# Altium footprint library new-version.PcbLib: 241 footprints (part 2 of 16)
Each footprint in its own frame and in the unit in brackets; x right, y up, seen from the top. Pads: shape width x height; smd on the part's side, far side on the other; paste and mask are expansions set on the pad; w line width, h text height; cw(c..) or ccw(c..) is an arc to the next point about the centre after c.
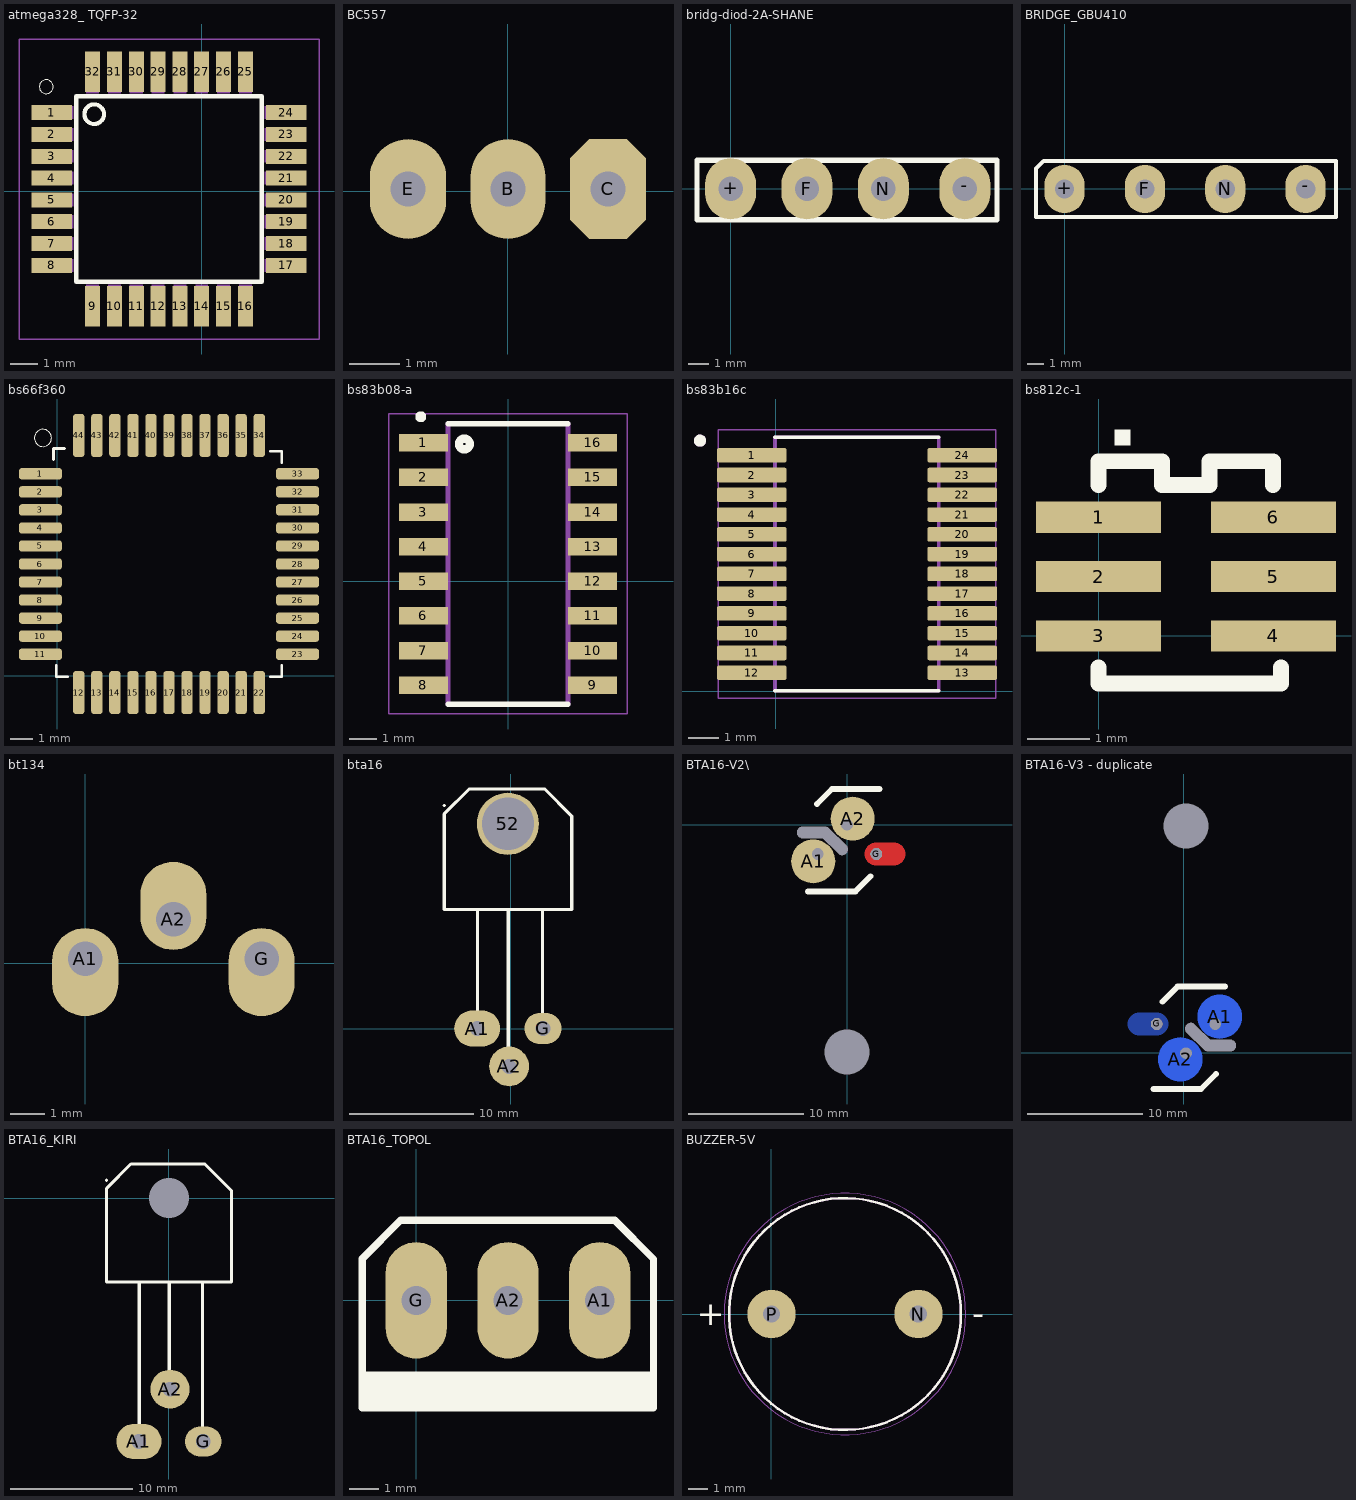
[diagram p1: the footprints below, top view; thin cyan lines are the x and y axes]

## atmega328_ TQFP-32 [mm]
pads (32):
  rect 1.5x0.55 smd: 1(-5.5,2.887) 2(-5.5,2.087) 3(-5.5,1.287) 4(-5.5,0.487) 5(-5.5,-0.313) 6(-5.5,-1.113) 7(-5.5,-1.913) 8(-5.5,-2.713) 17(3.1,-2.713) 18(3.1,-1.913) 19(3.1,-1.113) 20(3.1,-0.313) 21(3.1,0.487) 22(3.1,1.287) 23(3.1,2.087) 24(3.1,2.887)
  rect 0.55x1.5 smd: 9(-4,-4.213) 10(-3.2,-4.213) 11(-2.4,-4.213) 12(-1.6,-4.213) 13(-0.8,-4.213) 14(0,-4.213) 15(0.8,-4.213) 16(1.6,-4.213) 25(1.6,4.387) 26(0.8,4.387) 27(0,4.387) 28(-0.8,4.387) 29(-1.6,4.387) 30(-2.4,4.387) 31(-3.2,4.387) 32(-4,4.387)
Top Overlay:
  circle w0.152: c-3.943,2.83 r0.359
  circle w0: c-5.7,3.837 r0.254
  lines w0.152: -4.6,-3.313 2.2,-3.313 2.2,3.487 -4.6,3.487 -4.6,-3.313
Mechanical 13:
  region: -4.706,2.664 -5.707,2.664 -5.707,3.115 -4.706,3.115
  region: -4.706,1.861 -5.704,1.861 -5.704,2.315 -4.706,2.315
  region: -4.706,1.061 -5.711,1.061 -5.711,1.515 -4.706,1.515
  region: -4.706,0.258 -5.699,0.258 -5.699,0.715 -4.706,0.715
  region: -4.706,-0.543 -5.702,-0.543 -5.702,-0.085 -4.706,-0.085
  region: -4.706,-1.345 -5.706,-1.345 -5.706,-0.885 -4.706,-0.885
  region: -4.706,-2.145 -5.702,-2.145 -5.702,-1.685 -4.706,-1.685
  region: -4.706,-2.949 -5.707,-2.949 -5.707,-2.485 -4.706,-2.485
  region: -3.771,-4.419 -4.234,-4.419 -4.234,-3.419 -3.771,-3.419
  region: -2.971,-4.413 -3.43,-4.413 -3.43,-3.419 -2.971,-3.419
  region: -2.171,-4.42 -2.631,-4.42 -2.631,-3.419 -2.171,-3.419
  region: -1.371,-4.423 -1.83,-4.423 -1.83,-3.419 -1.371,-3.419
  region: -0.571,-4.418 -1.028,-4.418 -1.028,-3.419 -0.571,-3.419
  region: 0.229,-4.419 -0.226,-4.419 -0.226,-3.419 0.229,-3.419
  region: 1.029,-4.419 0.575,-4.419 0.575,-3.419 1.029,-3.419
  region: 1.829,-4.418 1.376,-4.418 1.376,-3.419 1.829,-3.419
  region: 3.297,-2.945 2.31,-2.945 2.31,-2.485 3.297,-2.485
  region: 3.297,-2.146 2.312,-2.146 2.312,-1.685 3.297,-1.685
  region: 3.297,-1.345 2.314,-1.345 2.314,-0.885 3.297,-0.885
  region: 3.297,-0.543 2.311,-0.543 2.311,-0.085 3.297,-0.085
  region: 3.297,0.258 2.31,0.258 2.31,0.715 3.297,0.715
  region: 3.297,1.06 2.314,1.06 2.314,1.515 3.297,1.515
  region: 3.297,1.865 2.319,1.865 2.319,2.315 3.297,2.315
  region: 3.297,2.664 2.315,2.664 2.315,3.115 3.297,3.115
  region: 1.829,3.601 1.378,3.601 1.378,4.583 1.829,4.583
  region: 1.029,3.6 0.576,3.6 0.576,4.583 1.029,4.583
  region: 0.229,3.599 -0.226,3.599 -0.226,4.583 0.229,4.583
  region: -0.571,3.6 -1.028,3.6 -1.028,4.583 -0.571,4.583
  region: -1.371,3.604 -1.83,3.604 -1.83,4.583 -1.371,4.583
  region: -2.171,3.6 -2.631,3.6 -2.631,4.583 -2.171,4.583
  region: -2.971,3.598 -3.432,3.598 -3.432,4.583 -2.971,4.583
  region: -3.771,3.598 -4.233,3.598 -4.233,4.583 -3.771,4.583
Mechanical 15:
  lines w0.05: -6.7,-5.413 4.3,-5.413 4.3,5.587 -6.7,5.587 -6.7,-5.413

## BC557 [mm]
pads (3):
  oval 1.5x2 hole 0.7: B(0.002,0.044)
  oct 1.524x2 hole 0.7: C(2.002,0.044)
  oval 1.524x2 hole 0.7: E(-1.998,0.044)
Bottom Overlay:
  lines w0.254: -2.03,0.044 cw(c0.002,0.044) 2.034,0.044 ; -1.998,0.044 -1.998,-0.972 2.002,-0.972 2.002,0.044

## bridg-diod-2A-SHANE [mm]
pads (4):
  oval 2.5x3 hole 1.2: +(0,0) -(11.5,0) F(3.75,0) N(7.5,0)
Top Overlay:
  lines w0.254: -1.651,-1.524 13.081,-1.524 13.081,1.397 -1.651,1.397 -1.651,-1.524

## BRIDGE_GBU410 [mm]
pads (4):
  oval 2.5x3 hole 1.2: +(0,0) -(15,0) F(5,0) N(10,0)
Top Overlay:
  lines w0.254: -1.778,-1.75 -1.778,1.27 -1.298,1.75 16.891,1.75 16.891,-1.75 -1.778,-1.75

## bs66f360 [mm]
pads (44):
  rrect50% 1.9x0.5 smd: 1(-0.747,8.953) 2(-0.747,8.153) 3(-0.747,7.353) 4(-0.747,6.553) 5(-0.747,5.753) 6(-0.747,4.953) 7(-0.747,4.153) 8(-0.747,3.353) 9(-0.747,2.553) 10(-0.747,1.753) 11(-0.747,0.953) 23(10.653,0.953) 24(10.653,1.753) 25(10.653,2.553) 26(10.653,3.353) 27(10.653,4.153) 28(10.653,4.953) 29(10.653,5.753) 30(10.653,6.553) 31(10.653,7.353) 32(10.653,8.153) 33(10.653,8.953)
  rrect50% 0.5x1.9 smd: 12(0.953,-0.747) 13(1.753,-0.747) 14(2.553,-0.747) 15(3.353,-0.747) 16(4.153,-0.747) 17(4.953,-0.747) 18(5.753,-0.747) 19(6.553,-0.747) 20(7.353,-0.747) 21(8.153,-0.747) 22(8.953,-0.747) 34(8.953,10.653) 35(8.153,10.653) 36(7.353,10.653) 37(6.553,10.653) 38(5.753,10.653) 39(4.953,10.653) 40(4.153,10.653) 41(3.353,10.653) 42(2.553,10.653) 43(1.753,10.653) 44(0.953,10.653)
Top Overlay:
  circle w0: c-0.635,10.541 r0.381
  lines w0.127: -0.174,9.58 -0.174,10.08 0.326,10.08 ; -0.047,0.453 -0.047,-0.047 0.453,-0.047 ; 9.453,-0.047 9.953,-0.047 9.953,0.453 ; 9.453,9.953 9.953,9.953 9.953,9.453
3D body "LQFP-44.STEP": height 1.6, standoff 0, extent -1.05,-1.04 10.95,10.96

## bs83b08-a [mm]
pads (16):
  rect 1.8x0.64 smd: 1(-3.105,5.08) 2(-3.105,3.81) 3(-3.105,2.54) 4(-3.105,1.27) 5(-3.105,0) 6(-3.105,-1.27) 7(-3.105,-2.54) 8(-3.105,-3.81) 9(3.105,-3.81) 10(3.105,-2.54) 11(3.105,-1.27) 12(3.105,0) 13(3.105,1.27) 14(3.105,2.54) 15(3.105,3.81) 16(3.105,5.08)
Top Overlay:
  circle w0.3: c-1.6,5.035 r0.2
  circle w0.2: c-3.2,6.035 r0.1
  lines w0.2: -2.2,-4.515 2.2,-4.515 ; -2.2,5.785 2.2,5.785
Mechanical 13:
  lines w0.2: -2.2,-4.515 -2.2,5.785 ; 2.2,-4.515 2.2,5.785
Mechanical 15:
  lines w0.05: -4.375,-4.865 -4.375,6.135 4.375,6.135 4.375,-4.865 -4.375,-4.865
3D body "step_temp.STEP": height 2.14, standoff 0.02, extent -3.555,-4.875 3.555,6.145

## bs83b16c [mm]
pads (24):
  rrect25% 2.286x0.48 smd mask+0.051: 1(-0.793,7.766) 2(-0.793,7.116) 3(-0.793,6.466) 4(-0.793,5.816) 5(-0.793,5.166) 6(-0.793,4.516) 7(-0.793,3.866) 8(-0.793,3.216) 9(-0.793,2.566) 10(-0.793,1.916) 11(-0.793,1.266) 12(-0.793,0.616) 13(6.127,0.616) 14(6.127,1.266) 15(6.127,1.916) 16(6.127,2.566) 17(6.127,3.216) 18(6.127,3.866) 19(6.127,4.516) 20(6.127,5.166) 21(6.127,5.816) 22(6.127,6.466) 23(6.127,7.116) 24(6.127,7.766)
Top Overlay:
  circle w0.2: c-2.493,8.246 r0.1
  lines w0.127: -0.023,0.026 5.357,0.026 ; -0.023,8.356 5.357,8.356
Mechanical 13:
  circle w0.2: c-2.493,8.246 r0.1
  lines w0.127: -0.023,0.026 5.357,0.026 5.357,8.356 -0.023,8.356 -0.023,0.026
Mechanical 15:
  lines w0.05: -1.893,-0.224 7.227,-0.224 7.227,8.606 -1.893,8.606 -1.893,-0.224
3D body "2K.STEP": height 2, standoff 0, extent -1.106,0.055 6.694,8.255

## bs812c-1 [mm]
pads (6):
  rect 2x0.5 smd: 1(0,1.9) 2(0,0.95) 3(0,0) 4(2.8,0) 5(2.8,0.95) 6(2.8,1.9)
Top Overlay:
  rectangle: 0.254,3.048 0.508,3.302
  lines w0.254: 0,-0.508 0,-0.762 2.921,-0.762 2.921,-0.508 ; 0,2.413 0,2.794 0.381,2.794 1.016,2.794 1.016,2.413 1.778,2.413 1.778,2.794 2.794,2.794 2.794,2.413
3D body "bs812c-1.stp": height 1.45, standoff 0, extent 0.147,-0.635 2.647,2.265

## bt134 [mm]
pads (3):
  oval 1.905x2.54 hole 1 copper offset 0,-0.381: A1(0,0.127) G(5.08,0.127)
  oval 1.905x2.54 hole 1 copper offset 0,0.381: A2(2.54,1.27)
Bottom Overlay:
  circle w0.3: c-1.143,-0.381 r0.1
  lines w0.254: -1.905,1.016 -1.27,1.651 ; -1.651,-1.143 6.731,-1.143 6.731,0.762 6.096,1.397 -0.889,1.397 -1.651,0.635 -1.651,-1.143

## bta16 [mm]
pads (4):
  round 5 hole 4.2: 52(-0.222,16.468)
  oval 3.7x2.9 hole 1.2: A1(-2.687,0)
  round 3.2 hole 1.2: A2(-0.127,-3.048)
  oval 3x2.5 hole 1.2: G(2.594,0.009)
Top Overlay:
  lines w0.254: -2.658,0 -2.658,9.507 ; -0.196,-3.048 -0.196,9.564 ; 2.554,0 2.554,9.484 ; -2.658,9.507 -2.658,9.507 ; -5.34,9.57 4.696,9.57 4.914,9.57 4.914,17.088 2.736,19.265 -3.343,19.265 -5.34,17.268 -5.34,9.57 ; -5.34,17.929 -5.34,17.929
Bottom Overlay:
  lines w0.254: -4.164,1.952 -1.438,1.952 -0.29,0.805 -0.29,0.061 2.197,-2.425 2.197,-2.741 2.197,-3.355 2.197,-3.874 1.205,-4.866 ; 2.521,0 2.554,0 2.54,0 2.521,0

## BTA16-V2\ [mm] "Triak v2"
pads (12):
  round 0 hole 3.9: 0(0,-19.677)
  round 0 on Bottom Solder: 63(0.969,0.032) 63(3.382,-0.677)
  round 0 hole 1 slot 2.794 at 0 deg: 80(-2.93,-0.677)
  round 0 hole 1 slot 3.048 at 135 deg: 80(-1.145,-1.411)
  round 0 hole 1: A(0,0) M(-2.54,-2.54)
  rrect70% 0x0 on Bottom Solder rot 140: A(4.652,0.823)
  round 3.81 smd paste-3.81 mask+0.051: A1(-2.921,-3.175) A2(0.494,0.519)
  round 1.016 hole 1: G(2.54,-2.54)
  rrect50% 0x0 on Bottom Solder rot 140: M(2.112,-2.177)
Top Layer:
  lines w2.032: 2.541,-2.54 4.065,-2.54
Top Overlay:
  lines w0.508: -3.37,-5.768 0.736,-5.768 2.037,-4.467 ; -2.596,1.785 -1.295,3.086 2.811,3.086
Bottom Overlay:
  lines w0.508: -2.54,-13.43 -2.54,-3.624 ; 0,-13.43 0,-4.584 ; 2.54,-13.43 2.54,-5.463 ; -5,-21.225 -5,-21.213 -5,-13.43 5,-13.43 5,-21.213 3.35,-22.863 3.35,-22.875 -2,-22.875 -3.35,-22.875 -5,-21.225

## bta16-v3 [mm]

## BTA16-V3 - duplicate [mm]
pads (8):
  round 0 hole 3.9: 0(0.188,19.635)
  round 0 hole 1 slot 3.048 at 135 deg: 80(1.333,1.369)
  round 0 hole 1 slot 2.794 at 0 deg: 80(3.118,0.635)
  round 0 hole 1: A(0.188,-0.042) M(2.728,2.498)
  round 3.81 smd far side paste-3.81 mask+0.051: A1(3.109,3.133) A2(-0.305,-0.562)
  round 1.016 hole 1: G(-2.352,2.498)
Bottom Layer:
  lines w2.032: -3.877,2.497 -2.353,2.497
Top Overlay:
  lines w0.508: -2.623,-3.128 1.483,-3.128 2.784,-1.827 ; -1.849,4.425 -0.548,5.726 3.558,5.726
Bottom Overlay:
  lines w0.508: -2.352,5.421 -2.352,13.387 ; 0.188,4.541 0.188,13.387 ; 2.728,3.582 2.728,13.387 ; -4.812,13.387 5.188,13.387 5.188,21.17 5.188,21.183 3.538,22.833 2.188,22.833 -3.162,22.833 -3.162,22.82 -4.812,21.17 -4.812,13.387

## BTA16_KIRI [mm]
pads (4):
  round 0 hole 3.3: 52(0,0)
  oval 3.7x2.9 hole 1.2: A1(-2.465,-20)
  round 3.2 hole 1.2: A2(0.095,-15.7)
  oval 3x2.5 hole 1.2: G(2.816,-20)
Top Overlay:
  lines w0.254: -2.436,-20 -2.436,-6.961 ; 0.026,-15.7 0.026,-6.904 ; 2.776,-20 2.776,-6.983 ; -2.436,-6.961 -2.436,-6.961 ; -5.118,-6.898 -5.118,0.8 -3.121,2.798 2.959,2.798 5.136,0.62 5.136,-6.898 4.918,-6.898 -5.118,-6.898 ; -5.118,1.461 -5.118,1.461
Bottom Overlay:
  lines w0.254: 2.743,-16.468 2.762,-16.468 2.776,-16.468 2.743,-16.468

## BTA16_TOPOL [mm]
pads (3):
  oval 2.1x4 hole 1: A1(6.3,0) A2(3.15,0) G(0,0)
Top Overlay:
  rectangle: -1.854,-3.682 8.187,-2.436
  lines w0.254: -1.854,-3.682 -1.854,1.431 -0.542,2.743 6.82,2.743 8.146,1.418 8.146,-3.682 -1.854,-3.682

## BUZZER-5V [mm]
pads (2):
  round 2.5 hole 0.9: N(7.61,0) P(0.01,0)
Top Overlay:
  circle w0.127: c3.81,0 r6
  text "+" at -3.846,-0.571 h1.27
  text "-" at 10.403,-0.571 h1.27
Mechanical 13:
  circle w0.127: c3.81,0 r6
Mechanical 15:
  circle w0.05: c3.81,0 r6.25
3D body "CMI-1275C-050.STEP": height 8.5, standoff -5.5, extent -2.19,-5.969 9.81,6.031